# Altium integrated library iL04_22.IntLib: 50 symbols
Pins are listed as number, name and electrical type; pins without a type are passive.

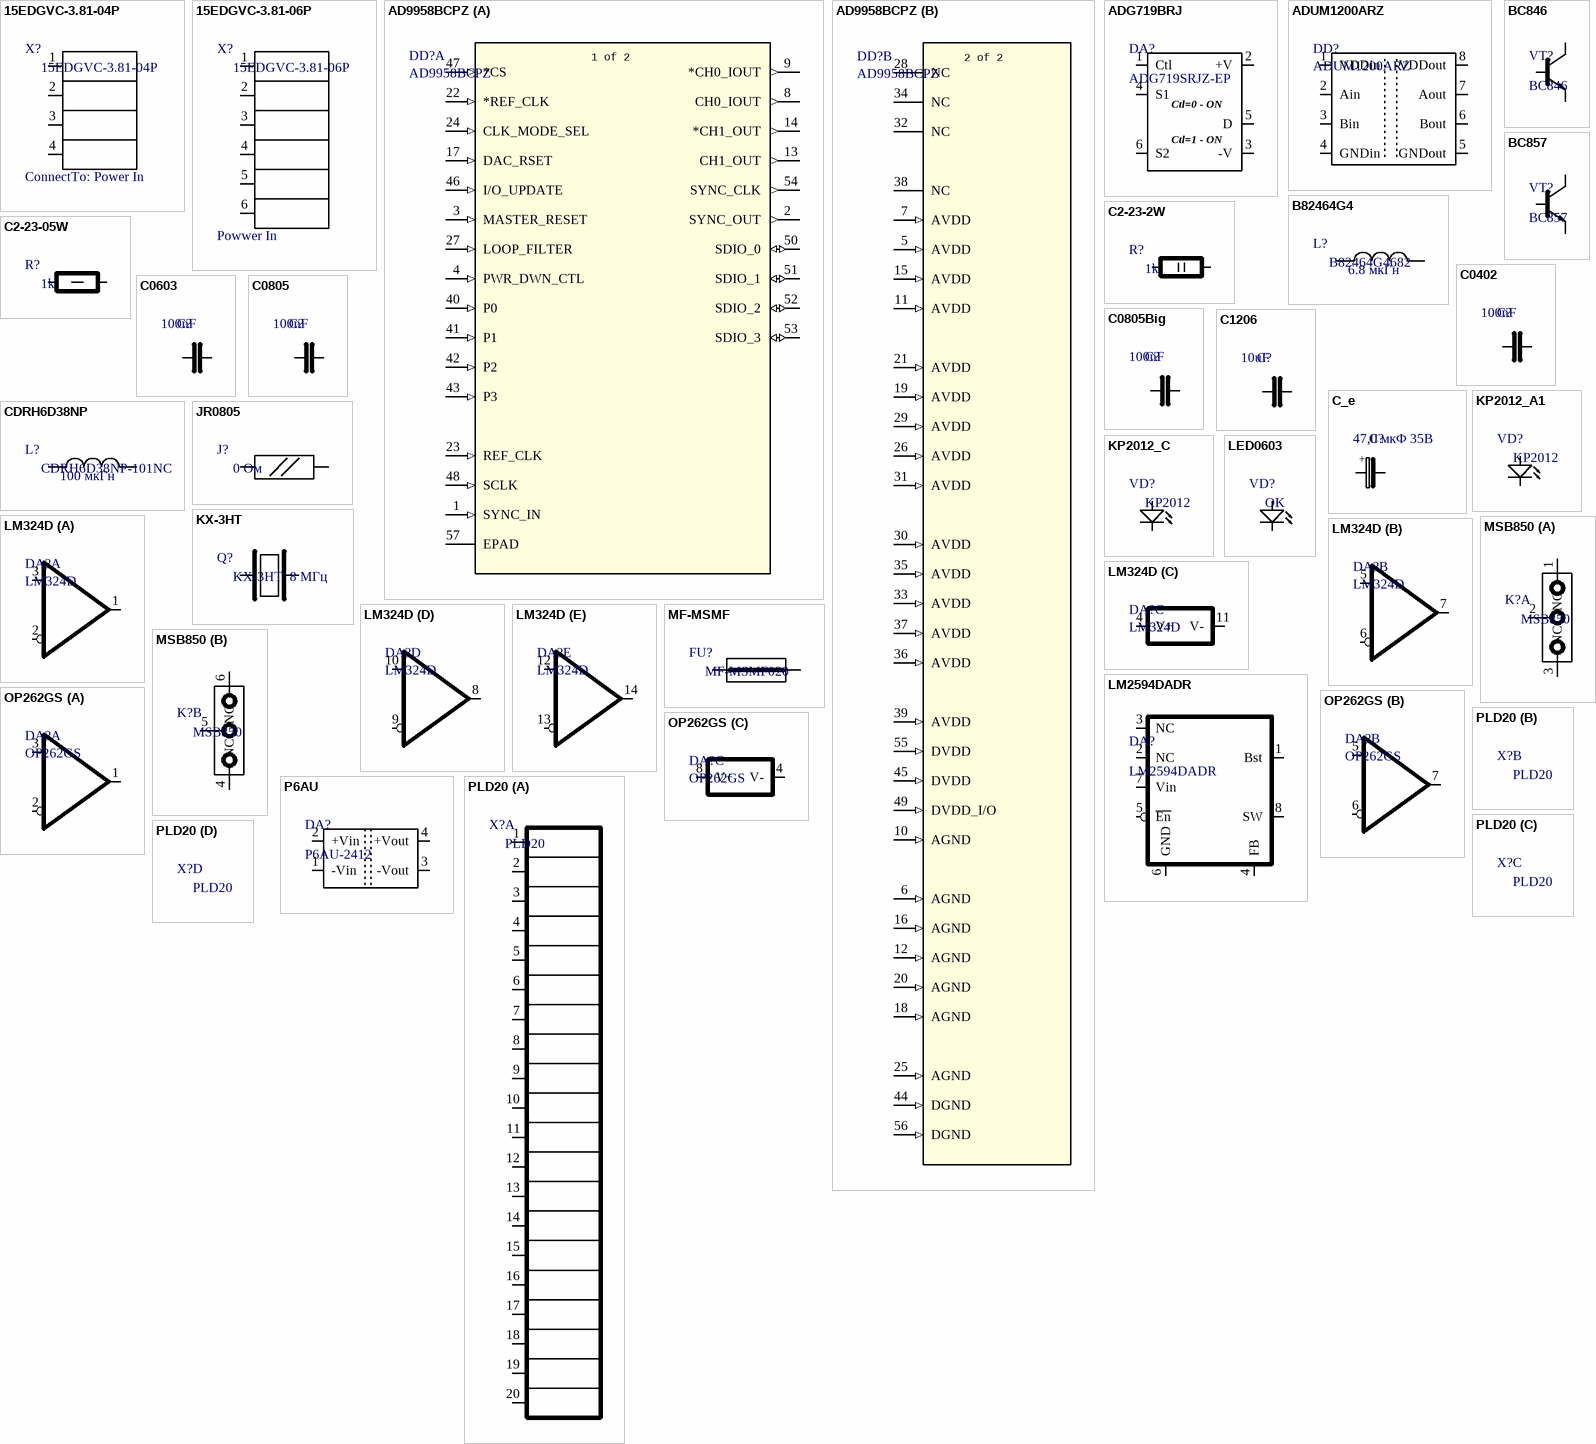
[diagram p0: symbols 15EDGVC-3.81-04P to PLD20]

## 15EDGVC-3.81-04P
designator X?  ConnectTo: Power In
Вилка  4/3.81; Vendor: Degson; Current: 8А; Voltage: 2кВ; Price: 25; Value: 15EDGVC-3.81-04P
footprint 15EDGVC_081_4
pins: 1 "Ground", 2 "Ground", 3 "Ground", 4 "Ground"

## 15EDGVC-3.81-06P
designator X?  ConnectTo: Powwer In
Вилка  6/3.81; Vendor: Degson; Current: 8А; Voltage: 2кВ; Price: 50; Value: 15EDGVC-3.81-06P
footprint 15EDGVC_081_6
pins: 1 "Ground", 2 "Ground", 3 "Ground", 4 "Ground", 5 "Ground", 6 "Ground"

## AD9958BCPZ
designator DD?
2х канальный   500 MSpS  DDS; SolderOption: DEV; Voltage: Core:1V8 IO:3V3; Vendor: Analog Devices Inc; Value: AD9958BCPZ; Price: 2500
footprint CP_56_1_ADI-M
part A pins: 1 SYNC_IN (in), 2 SYNC_OUT (out), 3 MASTER_RESET (in), 4 PWR_DWN_CTL (in), 8 CH0_IOUT (out), 9 *CH0_IOUT (out), 13 CH1_OUT (out), 14 *CH1_OUT (out), 17 DAC_RSET (in), 22 *REF_CLK (in), 23 REF_CLK (in), 24 CLK_MODE_SEL (in), 27 LOOP_FILTER (in), 40 P0 (in), 41 P1 (in), 42 P2 (in), 43 P3 (in), 46 I/O_UPDATE (in), 47 *CS (in), 48 SCLK (in), 50 SDIO_0 (io), 51 SDIO_1 (io), 52 SDIO_2 (io), 53 SDIO_3 (io), 54 SYNC_CLK (out), 57 EPAD
part B pins: 5 AVDD (in), 6 AGND (in), 7 AVDD (in), 10 AGND (in), 11 AVDD (in), 12 AGND (in), 15 AVDD (in), 16 AGND (in), 18 AGND (in), 19 AVDD (in), 20 AGND (in), 21 AVDD (in), 25 AGND (in), 26 AVDD (in), 28 NC, 29 AVDD (in), 30 AVDD (in), 31 AVDD (in), 32 NC, 33 AVDD (in), 34 NC, 35 AVDD (in), 36 AVDD (in), 37 AVDD (in), 38 NC, 39 AVDD (in), 44 DGND (in), 45 DVDD (in), 49 DVDD_I/O (in), 55 DVDD (in), 56 DGND (in)
part A text: 1 of 2
part B text: 2 of 2

## ADG719BRJ
designator DA?, comment ADG719SRJZ-EP
аналоговый ключ SPDT; Vendor: Anlog Devices; Voltage: 1V8.. 5V5; SolderOption: Norm; Value: ADG719SRJZ-EP; Price: 500
footprint SOT23-6 (SOT23, 6-Leads, Body 2,90x2,75mm, Pitch 0,95mm, IPC Medium Density)
pins: 1 Ctl (in) "Switch control", 2 +V (power) "Positive Power Supply Pin", 3 -V (power) "Negtive Power Supply Pin", 4 S1 "CTL = 0 - On source1 Terminal.", 5 D (power) "Drain Terminal", 6 S2 "CTL = 1 - On source2 Terminal."
text: Ctl=0 - ON; Ctl=1 - ON

## ADUM1200ARZ
designator DD?
2х канальный цифровой изолятор; Vendor: Analog Devices; Voltage: 3..5V; SolderOpton: Norm; Value: ADUM1200ARZ; Price: 750
footprint SO8 (SOIC 8, Pitch 1.27mm - Body 4x5mm, IPC Medium Density)
pins: 1 VDDin (power) "Inputs power suplay", 2 Ain (in) "Input A", 3 Bin (in) "Input B", 4 GNDin (power) "Inputs ground", 5 GNDout (power) "Outputs ground", 6 Bout (out) "Out B", 7 Aout (out) "Out A", 8 VDDout (power) "Outputs power suplay"

## B82464G4
designator L?, comment B82464G4682  Inductance: 6.8 мкГн
SMD Дроссель; Vendor: TDK; Curent: 4.3A; Price: 100; Value: B82464G4682
footprint IND_COILCRAFT_MSS1038 (SMD Inductor  Body Width 10mm Body Lenght 10.2mm Height 4mm)
pins: 1, 2

## BC846
designator VT?
NPN транзистор; Vendor: NXP; Voltage: 65V; SolderOption: Norm; Value: BC846; Price: 25
footprint SOT-23
pins: 1 base, 2 Emitter "Emiter", 3 Collector

## BC857
designator VT?
PNP транзистор; Vendor: NXP; Voltage: 65V; SolderOption: Norm; Value: BC857; Price: 25
footprint SOT-23
pins: 1 base, 2 Emitter "Emiter", 3 Collector

## C2-23-2W
designator R?, comment 1k
C2-23-2W; Vendor: Generic; Tolerance: 5%; SolderOpton: Norm; TC: +-100ppm/C; Power: 2W; Price: 10; Value: 1k
footprint RES2200-1826X764 (Resistor, Axial, Pad spacing 22mm - Body Lengh 18.26mm X Body Diameter 7.64mm)
pins: 1, 2

## C2-23-05W
designator R?, comment 1k
C2-23-05W; Vendor: Generic; Tolerance: 1%; SolderOpton: Norm; TC: +-100ppm/C; Power: 0.5W; Price: 10; Value: 1k
footprint C2-23-05W (Resistor, Axial, Pad spacing 16.51mm - Body Lengh 10mm X Body Diameter 3.9mm)
pins: 1, 2

## C0402
designator C?, comment 100nF
Чип конденсатор 0402; Voltage: 50V; Vendor: Generic; DielectricType: Y5V; Tol: 20%; SolderOption: Norm; Value: 100nF; Price: 2
footprint CAPC1005X55N (Chip Capacitor, Body 1.0x0.55mm, IPC Medium Density)
pins: 1, 2

## C0603
designator C?, comment 100nF
Чип конденсатор 0603; Voltage: 50V; Vendor: Generic; DielectricType: Y5V; Tol: 20%; SolderOption: Norm; Value: 100nF; Price: 2
footprint CAPC1608X87N (Chip Capacitor, Body 1.6x0.8mm IPC Medium Density)
pins: 1, 2

## C0805
designator C?, comment 100nF
Чип конденсатор 0805; Voltage: 50V; Vendor: Generic; DielectricType: Y5V; Tol: 20%; SolderOption: Norm; Value: 100nF; Price: 2
footprint SMD0805CAP (Чипконденсатор, 2.0x1.3mm)
pins: 1, 2

## C0805Big
designator C?, comment 100nF
Чип конденсатор 0805; Voltage: 50V; Vendor: Generic; DielectricType: X7R; Tol: 20%; SolderOption: Norm; Value: 100nF; Price: 2
footprint RC0805
pins: 1, 2

## C1206
designator C?, comment 10uF
Чип конденсатор 0805; Voltage: 25V; Vendor: Generic; DielectricType: Y5V; Tol: 20%; SolderOpton: Norm; Value: 10uF; Price: 2; Parameter 1: *
footprint CAPC1206 (Chip Capacitor, Body 3.2x1.6mm, IPC Medium Density)
pins: 1, 2

## C_e
designator C?, comment 47,0 мкФ 35В
5мм Электролитический конденсатор; SolderOption: Norm; Value: 47,0 мкФ 35В
footprint cap6 (Capacitor, Radial, Pin spacing 2.5mm - Body Diameter 5.0mm X Body Height 11mm)
pins: 1, 2
text: +

## CDRH6D38NP
designator L?, comment CDRH6D38NP-101NC  Inductance: 100 мкГн
SMD Дроссель; Vendor: Sumida; Curent: 0.5A; Price: 100; Value: CDRH6D38NP-101NC
footprint cdrh6d38np
pins: 1, 2

## JR0805
designator J?, comment 0 Ом
SMD 0805 перемычка; SolderOption: Norm; Price: 2; Vendor: *; Value: 0 Ом
footprint SMD0805RES (Чипрезистор, 2.0x1.3mm)
pins: 1, 2

## KP2012_A1
designator VD?, comment KP2012
Чип светодиод 0805; Vendor: KB; Color: Green; SolderOpton: Norm; Price: 20; Value: KP2012
footprint SMD0805DIO_A
pins: 1 Anode, 2 Catode

## KP2012_C
designator VD?, comment KP2012
Чип светодиод 0805; Vendor: KB; Color: Green; SolderOpton: Norm; Price: 20; Value: KP2012
footprint SMD0805DIO_C
pins: 1 Cathode, 2 Anode

## KX-3HT
designator Q?, comment KX-3HT  8 МГц
Резонатор кварцевый; Vendor: Geyer; SolderOption: Norm; Price: 50; Value: KX-3HT  8 МГц
footprint HC49_S (HC-49/U-S Leaded Cristal, Body 11.5x4.66mm; Pitch 4.88mm)
pins: 1, 2

## LED0603
designator VD?, comment OK
Чип светодиод 0603; Vendor: KB; Color: Green; SolderOpton: Norm; Price: 20; Value: OK
footprint LED0603 (Chip LED 0603, Body 2.25x1mm)
pins: 1 Cathode, 2 Anode

## LM324D
designator DA?
счетверённый ОУ; Vendor: Texas Instruments; Voltage: 3..30V/+-1.5..+-15V; Bandwidth: 1.3MHz; SolderOption: Norm; Value: LM324D; Price: 25
footprint SOIC14 (SOIC 14, Pitch 1.27mm - Body 4x8.75mm, IPC Medium Density)
part A pins: 1 OUT (out) "Output 2", 2 - (in) "Inv. input 1", 3 + (in) "No inv input 1"
part B pins: 5 + (in) "No inv input 2", 6 - "Inv. Input 2", 7 OUT "Output 2"
part C pins: 4 V+ (power) "Positive pow. supl.", 11 V- (power) "Negative pow. sup."
part D pins: 8 OUT "Output 2", 9 - "Inv. Input 2", 10 + (in) "No inv input 2"
part E pins: 12 + (in) "No inv input 2", 13 - "Inv. Input 2", 14 OUT "Output 2"

## LM2594DADR
designator DA?
Понижающий DC/DC конвертор; Vendor: ON Semi; Voltage: 37V; SolderOpton: Norm; Value: LM2594DADR; Price: 400
footprint SO8 (SOIC 8, Pitch 1.27mm - Body 4x5mm, IPC Medium Density)
pins: 1 Bst "Bootstrap capacitor", 2 NC "Not Connected", 3 NC "Not Connected", 4 FB "Soft start", 5 ~{En} (in) "Enable work", 6 GND (power) "Ground", 7 Vin (power) "Positive power supl", 8 SW (out) "Switch out"

## MF-MSMF
designator FU?, comment MF-MSMF020
Предохранитель самовосстанавливающийся; Vendor: Bourns; SolderOption: Norm; Price: 20; Value: MF-MSMF020
footprint MSMF020
pins: 1, 2

## MSB850
designator K?
Кнопка с фиксацией 2xSPDT; SolderOption: Norm; Price: 1; Vendor: *; Value: MSB850
footprint MSB850 (Body 8.8x8.8mm, Straight PCB Mounting  SubminiatureToggle SPDT Switch)
part A pins: 1 NO "Normaly Open", 2 Cetnter, 3 NC "Normaly Closed"
part B pins: 4 NC "Normaly Closed", 5 Cetnter, 6 NO "Normaly Open"

## OP262GS
designator DA?
ОУ сдвоенный R2R out; Vendor: Analog Devices; Voltage: 2.7..12V; Bandwidth: 15MHz; SolderOption: Norm; Value: OP262GS; Price: 400
footprint SO8 (SOIC 8, Pitch 1.27mm - Body 4x5mm, IPC Medium Density)
part A pins: 1 OUT (out) "Output 2", 2 - (in) "Inv. input 1", 3 + (in) "No inv input 1"
part B pins: 5 + (in) "No inv input 2", 6 - "Inv. Input 2", 7 OUT "Output 2"
part C pins: 4 V- (power) "Negative pow. sup.", 8 V+ (power) "Positive pow. supl."

## P6AU
designator DA?, comment P6AU-2412
Изолированный DC-DC; Vendor: Peak Electronics; Voltage: 24V; SolderOption: Norm; Value: P6AU-2412; Price: 500
footprint SiP4
pins: 1 -Vin (power) "Negtive power supl", 2 +Vin (power) "Positive power supl", 3 -Vout (power) "Negtive voltge out", 4 +Vout (power) "Positive voltge out"

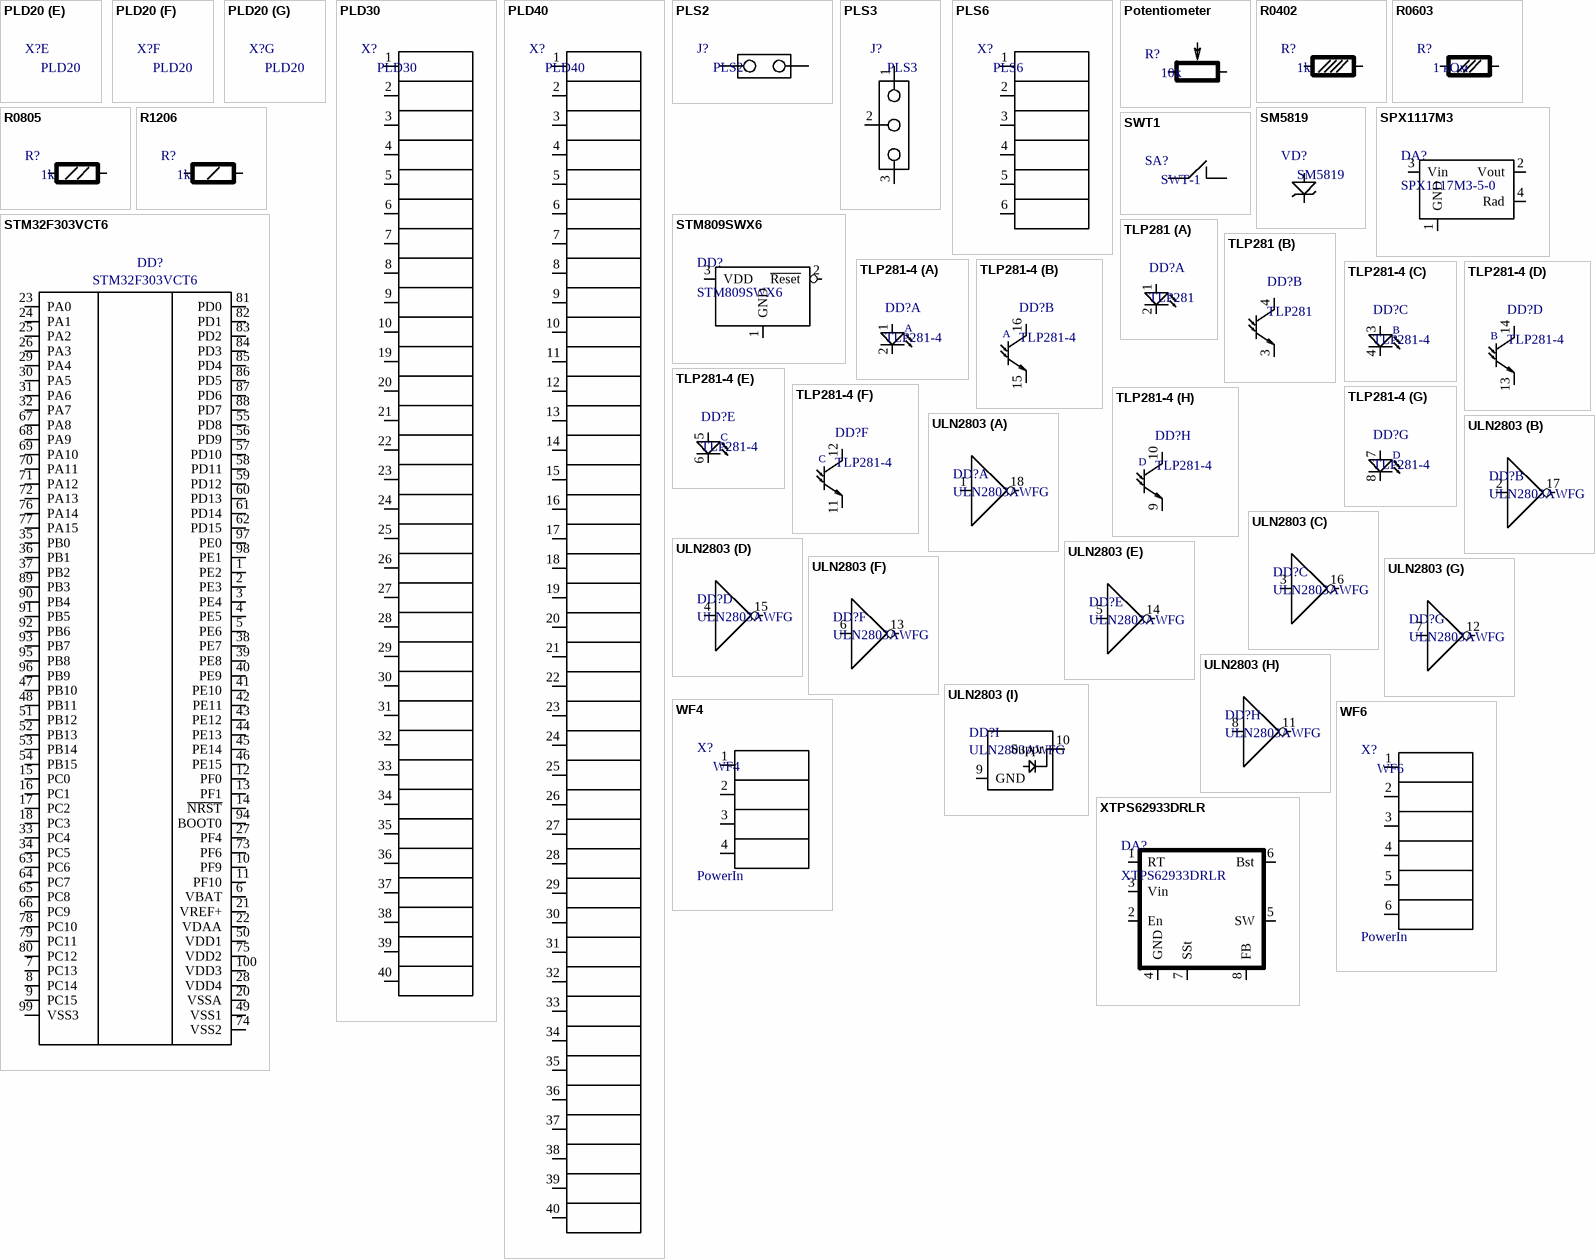
[diagram p1: symbols PLD20 to XTPS62933DRLR]

## PLD20
designator X?
Вилка  PLD 20/1.27; Vendor: Confly; SolderOption: Norm; Price: 10; Value: PLD20
footprint pld2x10_1.27 (20 Contacts, Pitch 1.27mm - Horizontal, Dual Row Through Mount Right Angle Straight Header)
part A pins: 1, 2, 3, 4, 5, 6, 7, 8, 9, 10, 11, 12, 13, 14, 15, 16, 17, 18, 19, 20
2 alternate drawings of the same symbol

## PLD30
designator X?
Вилка  PLD 30/2.54; Vendor: Confly; SolderOption: Norm; Price: 20; Value: PLD30
footprint PLD40
pins: 1 "Ground", 2 "Ground", 3 "Ground", 4 "Ground", 5 "Ground", 6 "Ground", 7 "Ground", 8 "Ground", 9 "Ground", 10 "Ground", 19 "Ground", 20 "Ground", 21 "Ground", 22 "Ground", 23 "Ground", 24 "Ground", 25 "Ground", 26 "Ground", 27 "Ground", 28 "Ground", 29 "Ground", 30 "Ground", 31 "Ground", 32 "Ground", 33 "Ground", 34 "Ground", 35 "Ground", 36 "Ground", 37 "Ground", 38 "Ground", 39 "Ground", 40 "Ground"

## PLD40
designator X?
Вилка  PLD 40/2.54; Vendor: Confly; SolderOption: Norm; Price: 20; Value: PLD40
footprint PLD40_n
pins: 1 "Ground", 2 "Ground", 3 "Ground", 4 "Ground", 5 "Ground", 6 "Ground", 7 "Ground", 8 "Ground", 9 "Ground", 10 "Ground", 11 "Ground", 12 "Ground", 13 "Ground", 14 "Ground", 15 "Ground", 16 "Ground", 17 "Ground", 18 "Ground", 19 "Ground", 20 "Ground", 21 "Ground", 22 "Ground", 23 "Ground", 24 "Ground", 25 "Ground", 26 "Ground", 27 "Ground", 28 "Ground", 29 "Ground", 30 "Ground", 31 "Ground", 32 "Ground", 33 "Ground", 34 "Ground", 35 "Ground", 36 "Ground", 37 "Ground", 38 "Ground", 39 "Ground", 40 "Ground"

## PLS2
designator J?
Джампер PLS2 2.54мм; SolderOption: Norm; Price: 1; Vendor: *; Value: PLS2
footprint PLS2
pins: 1, 2

## PLS3
designator J?
Джампер PLS3 2.54мм; SolderOption: Norm; Price: 1; Vendor: *; Value: PLS3
footprint HDR1X3 (Connector; Header; 3 Position)
pins: 1 Right, 2 Cetnter, 3 Left

## PLS6
designator X?
Вилка  PLS 6x2.54; Vendor: Confly; SolderOption: Norm; Price: 5; Value: PLS6
footprint PLS6
pins: 1 "Ground", 2 "Ground", 3 "Ground", 4 "Ground", 5 "Ground", 6 "Ground"

## Potentiometer
designator R?, comment 10k
Резистор переменный; Vendor: Generic; Tolerance: 5%; SolderOption: Norm; TC: +-100ppm/C; Price: 50; Value: 10k
footprint potentiometerV (Potentiometer Vertical)
pins: 1 "Left", 2 "Middle", 3 "Right"

## R0402
designator R?, comment 1k
Чип резистор 0402; Vendor: Generic; Tolerance: 5%; SolderOption: Norm; TC: +-100ppm/C; Price: 2; Value: 1k
footprint RESC1005X40N (Chip Resistor, EIA 0402, Metric 1005, Body 1.0x0.5mm, IPC Medium Density)
pins: 1, 2

## R0603
designator R?, comment 1 кОм
Чип резистор 0603; Vendor: Generic; Tolerance: 5%; SolderOption: Norm; TC: +-100ppm/C; Price: 2; Value: 1 кОм
footprint RESC1608X64N (Chip Resistor, EIA 0603, Metric 1608, Body 1.6x0.8mm, IPC Medium Density)
pins: 1, 2

## R0805
designator R?, comment 1k
Чип резистор 0805; Vendor: Generic; Tolerance: 5%; SolderOpton: Norm; TC: +-100ppm/C; Price: 2; Value: 1k
footprint SMD0805RES (Чипрезистор, 2.0x1.3mm)
pins: 1, 2

## R1206
designator R?, comment 1k
Чип резистор 1206; Vendor: Generic; Tolerance: 5%; SolderOpton: Norm; TC: +-100ppm/C; Price: 2; Value: 1k
footprint RES1206 (Chip Resistor, 2-Leads, Body 3,10x1,60mm, IPC Medium Density)
pins: 1, 2

## SM5819
designator VD?
Чип шоттки диод MELF; Vendor: Diotec; Voltage: 40V; Current: 1A; SolderOption: Norm; Price: 15; Value: SM5819
footprint MELF
pins: 1 Cathode, 2 Anode

## SPX1117M3
designator DA?, comment SPX1117M3-5-0
LDO стабилизатор; Vendor: Sipex; Voltage: 20V; SolderOpton: Norm; Value: SPX1117M3-5-0; Price: 20
footprint SOT223 (SOT223, 2.30mm pitch; 3 pin, 3.70mm W X 6.70mm L, IPC Medium Density)
pins: 1 GND (power) "Ground", 2 Vout (power) "Voltge out", 3 Vin (power) "Positive power supl", 4 Rad (power) "Radiator connected to Vout"

## STM32F303VCT6
designator DD?
ARM Cortex3; Vendor: STM; SolderOption: Norm; Value: STM32F303VCT6; Price: 600
footprint LQFP100 (TSQFP, 100-Leads, Body 14,00x14,00mm, Pitch 0,50mm, IPC Medium Density)
pins: 1 PE2, 2 PE3, 3 PE4, 4 PE5, 5 PE6, 6 VBAT, 7 PC13, 8 PC14, 9 PC15, 10 PF9, 11 PF10, 12 PF0, 13 PF1, 14 ~{NRST}, 15 PC0, 16 PC1, 17 PC2, 18 PC3, 20 VSSA, 21 VREF+, 22 VDAA, 23 PA0, 24 PA1, 25 PA2, 26 PA3, 27 PF4, 28 VDD4, 29 PA4, 30 PA5, 31 PA6, 32 PA7, 33 PC4, 34 PC5, 35 PB0, 36 PB1, 37 PB2, 38 PE7, 39 PE8, 40 PE9, 41 PE10, 42 PE11, 43 PE12, 44 PE13, 45 PE14, 46 PE15, 47 PB10, 48 PB11, 49 VSS1, 50 VDD1, 51 PB12, 52 PB13, 53 PB14, 54 PB15, 55 PD8, 56 PD9, 57 PD10, 58 PD11, 59 PD12, 60 PD13, 61 PD14, 62 PD15, 63 PC6, 64 PC7, 65 PC8, 66 PC9, 67 PA8, 68 PA9, 69 PA10, 70 PA11, 71 PA12, 72 PA13, 73 PF6, 74 VSS2, 75 VDD2, 76 PA14, 77 PA15, 78 PC10, 79 PC11, 80 PC12, 81 PD0, 82 PD1, 83 PD2, 84 PD3, 85 PD4, 86 PD5, 87 PD6, 88 PD7, 89 PB3, 90 PB4, 91 PB5, 92 PB6, 93 PB7, 94 BOOT0, 95 PB8, 96 PB9, 97 PE0, 98 PE1, 99 VSS3, 100 VDD3

## STM809SWX6
designator DD?
Reset генератор; Vendor: STM; Voltage: 3V3; SolderOption: Norm; Value: STM809SWX6; Price: 20
footprint SOT-23
pins: 1 GND (power) "Ground", 2 ~{Reset} (out) "Reset", 3 VDD (power) "Positive power supl"

## SWT1
designator SA?, comment SWT-1
Кнопка тактовая; Vendor: KLS; Voltage: 12; SolderOption: Norm; Price: 10; Value: SWT-1
footprint SWT-1
pins: 1, 2

## TLP281
designator DD?
Оптопара транзисторная; Vendor: Tosba; Voltage: 80V; SolderOption: Norm; Value: TLP281; Price: 150
footprint SOIC4
part A pins: 1 Anode, 2 Cathode
part B pins: 3 Emitter "Emiter", 4 Collector

## TLP281-4
designator DD?
4х канальная транзисторная оптопара; Vendor: Tosba; Voltage: 80V; SolderOptoin: Norm; Value: TLP281-4; Price: 250
footprint SO16 (SOIC 16, Pitch 1.27mm - Body 4x10mm, IPC Medium Density)
part A pins: 1 Anode_A, 2 Cathode_A
part B pins: 15 Emitter_A, 16 Collector_A
part C pins: 3 Anode_B, 4 Cathode_B
part D pins: 13 Emitter_B, 14 Collector_B
part E pins: 5 Anode_C, 6 Cathode
part F pins: 11 Emitter_C, 12 Collector_C
part G pins: 7 Anode_D, 8 Cathode_D
part H pins: 9 Emitter_D, 10 Collector_D
part A text: A
part B text: A
part C text: B
part D text: B
part E text: C
part F text: C
part G text: D
part H text: D

## ULN2803
designator DD?, comment ULN2803AWFG
Буфер 8-канальный; Vendor: Toshiba; Voltage: 50V; Bandwidth: 15MHz; SolderOption: Norm; Value: ULN2803AWFG; Price: 100
footprint SOL18
part A pins: 1 In (in) "Input", 18 OUT (out) "Output"
part B pins: 2 In (in) "Input", 17 OUT (out) "Output"
part C pins: 3 In (in) "Input", 16 OUT (out) "Output"
part D pins: 4 In (in) "Input", 15 OUT (out) "Output"
part E pins: 5 In (in) "Input", 14 OUT (out) "Output"
part F pins: 6 In (in) "Input", 13 OUT (out) "Output"
part G pins: 7 In (in) "Input", 12 OUT (out) "Output"
part H pins: 8 In (in) "Input", 11 OUT (out) "Output"
part I pins: 9 GND "Ground", 10 Suppr "Negative pow. sup."

## WF4
designator X?  ConnectTo: PowerIn
Вилка  WF4x2.54; Vendor: Confly; SolderOption: Norm; Price: 25; Value: WF4
footprint Model Name (Footprint not found)
footprint MOLEX_22-27-2041 (2.54mm (.100") Pitch KK® Header, Single Row, Vertical, 4 Circuits)
pins: 1 "Ground", 2 "Ground", 3 "Ground", 4 "Ground"

## WF6
designator X?  ConnectTo: PowerIn
Вилка  WF6x2.54; Vendor: Confly; SolderOption: Norm; Price: 25; Value: WF6
footprint MOLEX_22-27-2061 (2.54mm (.100") Pitch KK® Header, Single Row, Vertical, 6 Circuits)
pins: 1 "Ground", 2 "Ground", 3 "Ground", 4 "Ground", 5 "Ground", 6 "Ground"

## XTPS62933DRLR
designator DA?
Понижающий DC/DC конвертор; Vendor: TI; Voltage: 30V; SolderOpton: Norm; Value: XTPS62933DRLR; Price: 400
footprint SOT583 (SOT583, Pitch 0.5mm - Body 1.6x2.1mm)
pins: 1 RT "Positive power supl", 2 En (in) "Enable work", 3 Vin (power) "Positive power supl", 4 GND (power) "Ground", 5 SW (out) "Switch out", 6 Bst "Bootstrap capacitor", 7 SSt "Soft start", 8 FB "Soft start"